# Altium footprint library MZ7XBFUN20171130.PcbLib: 37 footprints (part 3 of 3)
Each footprint in its own frame and in the unit in brackets; x right, y up, seen from the top. Pads: shape width x height; smd on the part's side, far side on the other; paste and mask are expansions set on the pad; w line width, h text height; cw(c..) or ccw(c..) is an arc to the next point about the centre after c.
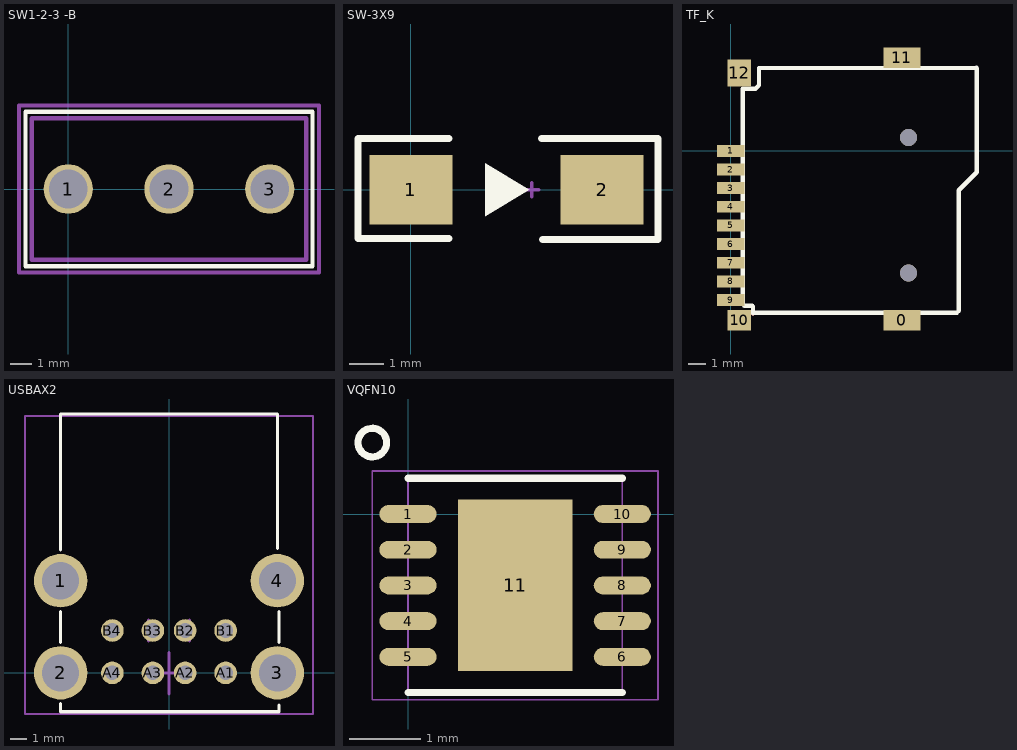
[diagram p2: the footprints below, top view; thin cyan lines are the x and y axes]

## SW1-2-3 -B [mm]
pads (3):
  round 2.3 hole 1.8: 1(0,0) 2(4.7,0) 3(9.4,0)
Top Overlay:
  lines w0.203: -2,-3.6 11.4,-3.6 11.4,3.6 -2,3.6 -2,-3.6
Mechanical 13:
  lines w0.203: -1.7,-3.3 11.1,-3.3 11.1,3.3 -1.7,3.3 -1.7,-3.3
Mechanical 15:
  lines w0.203: 3.7,0 5.7,0 ; 4.7,-1 4.7,0.9 ; -2.3,-3.9 11.7,-3.9 11.7,3.9 -2.3,3.9 -2.3,-3.9
3D body: height 11, standoff 0, extent -1.7,-3.3 11.1,3.3

## SW-3X9 [mm]
pads (2):
  rect 2.4x2 smd: 1(0,0) 2(5.5,0)
Top Overlay:
  region: 3.404,0 2.134,0.762 2.134,-0.762
  lines w0.2: 1.1,-1.397 -1.524,-1.397 -1.524,1.473 1.1,1.473 ; 3.759,1.473 7.112,1.473 ; 3.785,-1.422 7.112,-1.422 ; 7.112,-1.397 7.112,1.422
Mechanical 1:
  lines w0.1: 3.275,0 3.675,0 ; 3.475,-0.2 3.475,0.2
3D body: height 1.78, standoff 0, extent 1.524,-0.559 3.988,0.533
3D body: height 1.02, standoff 0, extent -1.422,-1.295 6.934,1.346

## TF_K [mm]
pads (13):
  rect 2.2x1.2 smd: 0(10.1,-10) 11(10.1,5.5)
  rect 1.6x0.7 smd: 1(0,0) 2(0,-1.1) 3(0,-2.2) 4(0,-3.3) 5(0,-4.4) 6(0,-5.5) 7(0,-6.6) 8(0,-7.7) 9(0,-8.8)
  rect 1.4x1.2 smd: 10(0.5,-10)
  rect 1.4x1.6 smd: 12(0.5,4.6)
via 10.5,0.8 diameter 1 hole 1
via 10.5,-7.2 diameter 1 hole 1
Top Layer:
  lines w0.254: 1.312,-9.594 1.362,-9.543
Top Overlay:
  lines w0.254: 1.312,-9.594 1.312,-9.187 1.261,-9.136 0.804,-9.136 0.702,-9.035 0.702,3.665 1.464,3.665 1.667,3.868 1.667,4.884 14.5,4.9 ; 1.362,-9.543 13.351,-9.543 13.453,-9.441 13.453,-2.329 14.52,-1.262 14.52,4.88

## USBAX2 [mm]
pads (12):
  round 3.3 hole 2.3: 1(-6.7,5.7) 2(-6.7,0) 3(6.7,0) 4(6.7,5.7)
  round 1.4 hole 0.9: A1(3.5,0) A2(1,0) A3(-1,0) A4(-3.5,0) B1(3.5,2.62) B2(1,2.62) B3(-1,2.62) B4(-3.5,2.62)
Top Overlay:
  lines w0.203: -6.7,-1.9 -6.7,-2.4 6.8,-2.4 6.8,-2 ; -6.7,1.9 -6.7,3.8 ; -6.7,7.6 -6.7,16 6.7,16 6.7,7.7 ; 6.8,1.9 6.8,3.8
Mechanical 13:
  lines w0.203: -1.27,1.985 -1.27,3.255 ; 1.27,1.985 1.27,3.255
Mechanical 15:
  lines w0.127: -8.89,-2.54 -8.89,15.875 8.89,15.875 8.89,-2.54 -8.89,-2.54
  lines w0.203: -1.4,0 1.14,0 ; -1.27,1.985 -1.27,3.255 ; 0,-1.3 0,1.24 ; 1.27,1.985 1.27,3.255

## VQFN10 [mm]
pads (11):
  oval 0.8x0.25 smd: 1(0,0) 2(0,-0.5) 3(0,-1) 4(0,-1.5) 5(0,-2) 6(3,-2) 7(3,-1.5) 8(3,-1) 9(3,-0.5) 10(3,0)
  rect 1.6x2.4 smd: 11(1.5,-1)
Top Overlay:
  circle w0.1: c-0.5,1 r0.2
  lines w0.1: 0,-2.5 3,-2.5 ; 0,0.5 3,0.5
Mechanical 6:
  text "11" at 1.18,-1.2 h0.76
Mechanical 7:
  lines w0.025: 0,-2.5 0,0.5 3,0.5 3,-2.5 0,-2.5
Mechanical 8:
  lines w0.025: -0.5,-2.6 -0.5,0.6 3.5,0.6 3.5,-2.6 -0.5,-2.6